# EAGLE library part 612X2620621 (library Wuerth_Elektronik_eiCan_05_Box_Header_IDC_Connectors_1_2)
WR-BHD 2.54mm Male SMT Box Header High Temperature, 26 pins
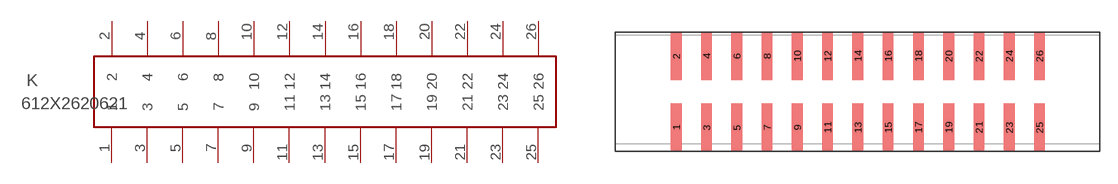
[diagram p71: symbol with the pads of 612X2620621; footprint 612X2620621]

Designator prefix K

## 612X2620621  [612X2620621]
1  1  pas
2  2  pas
3  3  pas
4  4  pas
5  5  pas
6  6  pas
7  7  pas
8  8  pas
9  9  pas
10  10  pas
11  11  pas
12  12  pas
13  13  pas
14  14  pas
15  15  pas
16  16  pas
17  17  pas
18  18  pas
19  19  pas
20  20  pas
21  21  pas
22  22  pas
23  23  pas
24  24  pas
25  25  pas
26  26  pas

## Footprint 612X2620621 (pad centres in mm)
WR-BHD 2.54mm Male SMT Box Header High Temperature, 26 pins
smd 0.9 x 4: 1 0.03,-3; 2 0.03,3; 3 2.57,-3; 4 2.57,3; 5 5.11,-3; 6 5.11,3; 7 7.65,-3; 8 7.65,3; 9 10.19,-3; 10 10.19,3; 11 12.73,-3; 12 12.73,3; 13 15.27,-3; 14 15.27,3; 15 17.81,-3; 16 17.81,3; 17 20.35,-3; 18 20.35,3; 19 22.89,-3; 20 22.89,3; 21 25.43,-3; 22 25.43,3; 23 27.97,-3; 24 27.97,3; 25 30.51,-3; 26 30.51,3